# Altium footprint library 常用元件封装.PCBLIB: 167 footprints (part 10 of 11)
Each footprint in its own frame and in the unit in brackets; x right, y up, seen from the top. Pads: shape width x height; smd on the part's side, far side on the other; paste and mask are expansions set on the pad; w line width, h text height; cw(c..) or ccw(c..) is an arc to the next point about the centre after c.
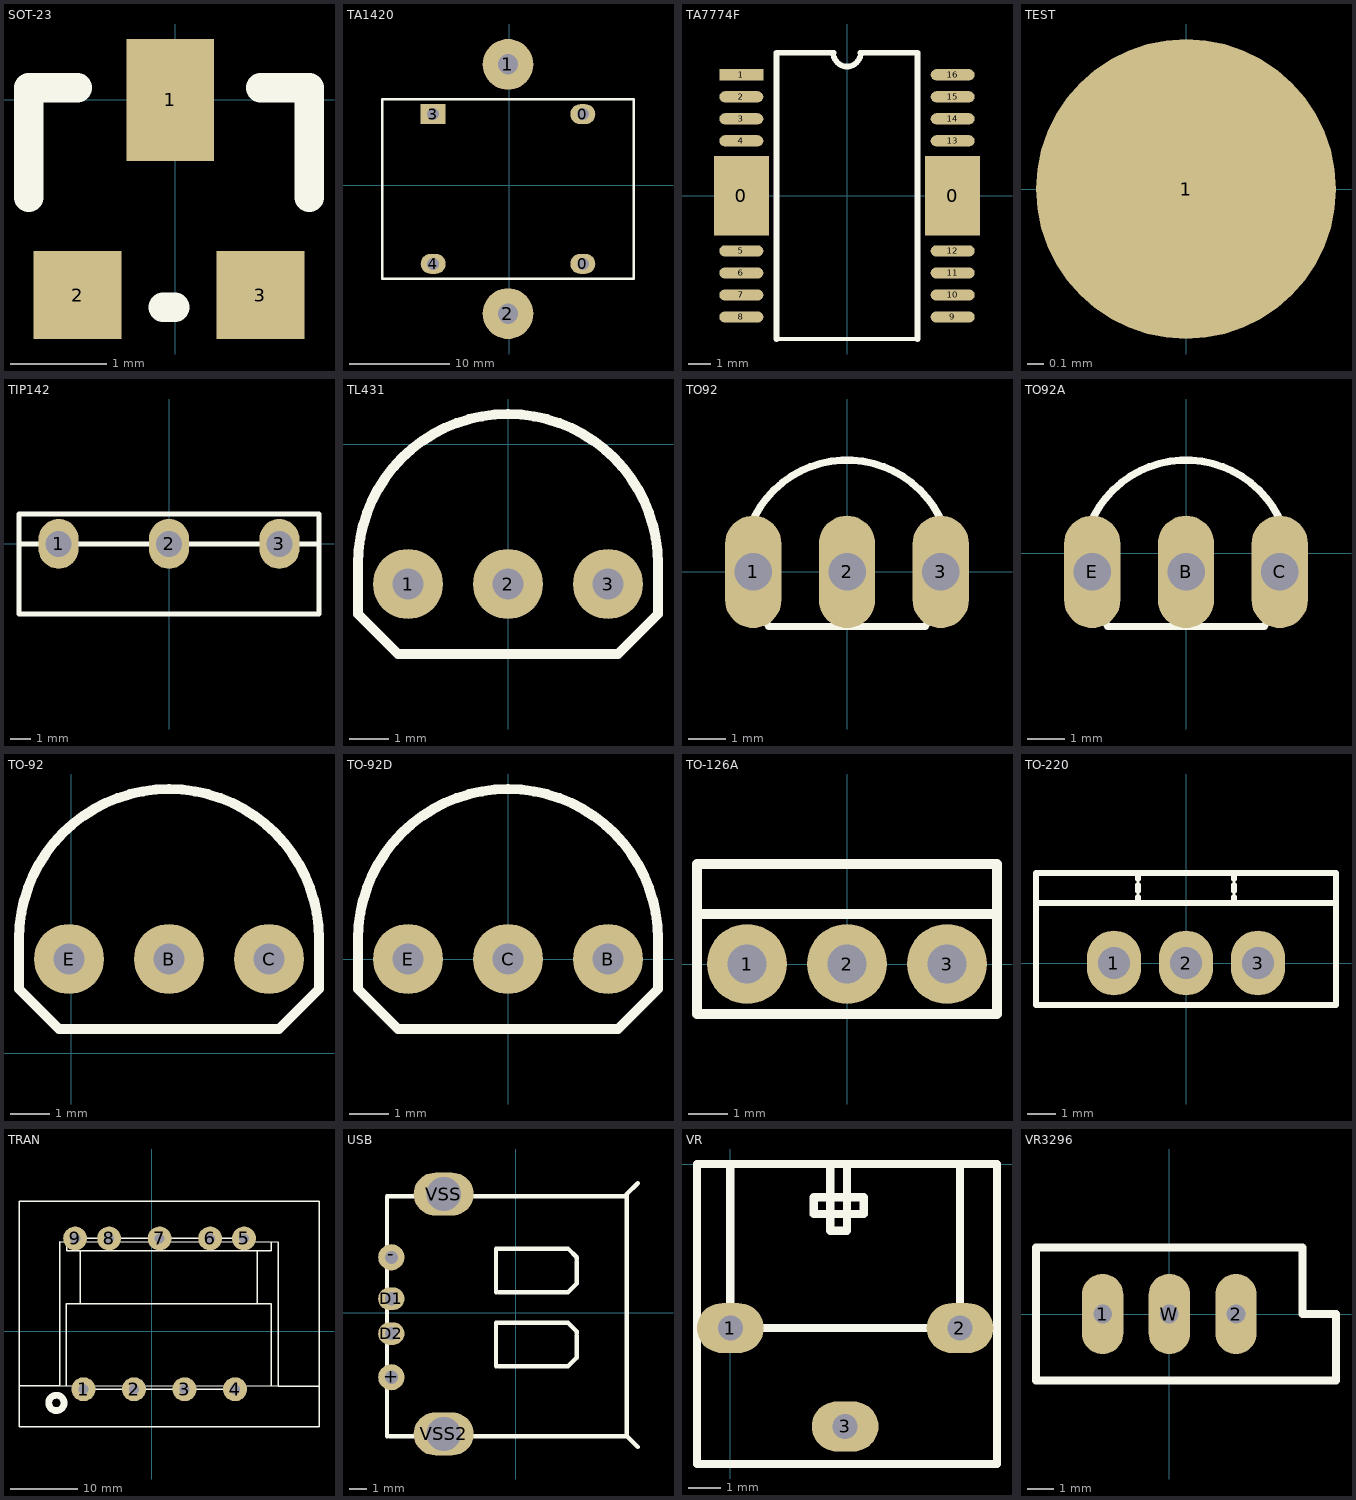
[diagram p9: the footprints below, top view; thin cyan lines are the x and y axes]

## SOT-23 [mil]
pads (3):
  rect 36x50 smd: 1(-2,0)
  rect 36x36 smd: 2(-40,-80) 3(35,-80)
TopOverlay:
  lines w12: -60,-40 -60,5 -40,5 ; -5,-85 0,-85 ; 35,5 55,5 55,-40

## TA1420 [mm]
pads (6):
  oval 2.5x2 hole 1.2: 0(7.38,-7.888) 0(7.38,7.112) 4(-7.62,-7.888)
  round 5.08 hole 2.032: 1(-0.12,12.112) 2(-0.12,-12.888)
  rect 2.5x2 hole 1.2: 3(-7.62,7.112)
TopOverlay:
  lines w0.254: -1.92,8.612 12.48,8.612 12.48,-9.388 -12.72,-9.388 -12.72,8.612 -0.22,8.612

## TA7774F [mm]
pads (18):
  rect 2.5x3.6 smd: 0(-4.8,0) 0(4.8,0)
  rect 2x0.508 smd: 1(-4.8,5.5)
  oval 2x0.508 smd: 2(-4.8,4.5) 3(-4.8,3.5) 4(-4.8,2.5) 5(-4.8,-2.5) 6(-4.8,-3.5) 7(-4.8,-4.5) 8(-4.8,-5.5) 9(4.8,-5.5) 10(4.8,-4.5) 11(4.8,-3.5) 12(4.8,-2.5) 13(4.8,2.5) 14(4.8,3.5) 15(4.8,4.5) 16(4.8,5.5)
TopOverlay:
  lines w0.2: -3.2,-6.5 3.2,-6.5
  lines w0.254: -3.2,-6.5 -3.2,6.5 -0.6,6.5 ; -0.625,6.5 ccw(c0,6.5) 0.625,6.5 ; 0.6,6.5 3.2,6.5 3.2,-6.5

## TEST [mil]
pads (1):
  round 70 smd: 1(0,0)

## TIP142 [mil]
pads (3):
  oval 79x98 hole 51: 1(-217,0) 2(0,0) 3(217,0)
TopOverlay:
  lines w10: -295,0 295,0 ; -295,-138 295,-138 295,59 -295,59 -295,-138

## TL431 [mil]
pads (3):
  round 70 hole 31.5: 1(-100,-140) 2(0,-140) 3(100,-140)
TopOverlay:
  lines w10: -150,-170 -150,-120 cw(c0,-120) 150,-120 150,-170 110,-210 -110,-210 -150,-170

## TO92 [mil]
pads (3):
  oval 60x120 hole 40: 1(-100,0) 2(0,0) 3(100,0)
TopOverlay:
  lines w7.87: -102.76,49.85 cw(c0,8.33) 102.76,49.85 ; -89.08,-49.71 -83.33,-58.33 83.33,-58.33 89.08,-49.71

## TO92A [mil]
pads (3):
  oval 60x120 hole 40: B(0,-20) C(100,-20) E(-100,-20)
TopOverlay:
  lines w7.87: -102.76,29.85 cw(c0,-11.67) 102.76,29.85 ; -89.08,-69.71 -83.33,-78.33 83.33,-78.33 89.08,-69.71

## TO-92 [mil]
pads (3):
  round 70 hole 31.5: B(98,94) C(198,94) E(-2,94)
TopOverlay:
  lines w10: -52,64 -52,114 cw(c98,114) 248,114 248,64 208,24 -12,24 -52,64

## TO-92D [mil]
pads (3):
  round 70 hole 31.5: B(100,0) C(0,0) E(-100,0)
TopOverlay:
  lines w10: -150,-30 -150,20 cw(c0,20) 150,20 150,-30 110,-70 -110,-70 -150,-30

## TO-126A [mil]
pads (3):
  round 80 hole 39: 1(-100,0) 2(0,0) 3(100,0)
TopOverlay:
  lines w10: 150,40 150,100 -150,100 -150,50 ; -150,50 150,50 150,-50 -150,-50 -150,50

## TO-220 [mil]
pads (3):
  oval 75x90 hole 45: 1(-100,0) 2(0,0) 3(100,0)
TopOverlay:
  lines w7.87: -66.67,83.33 -66.67,91.67 ; -66.67,100 -66.67,108.33 ; -66.67,116.67 -66.67,125 ; 66.67,83.33 66.67,91.67 ; 66.67,100 66.67,108.33 ; 66.67,116.67 66.67,125 ; -208.33,83.33 208.33,83.33 ; -208.33,83.33 -208.33,-58.33 208.33,-58.33 208.33,83.33 ; -208.33,83.33 -208.33,125 208.33,125 208.33,83.33

## TRAN [mil]
pads (9):
  round 140 hole 60: 1(-400,-340) 2(-104,-340) 3(192,-340) 4(488,-340) 5(541,544) 6(342,544) 7(46,544) 8(-250,544) 9(-449,544)
TopOverlay:
  circle w40: c-559.1,-420 r45.1
  lines w8: -778,-319 -540,-319 ; -500,-318 -500,160 -460,160 660,160 699,160 699,-321 ; -498,523 -498,471 698,471 699,472 699,521 ; -450,544 541,544 ; -420,160 -420,469 ; -402,-340 488,-340 ; 617,160 617,470 ; 980,-321 742,-321 ; -540,-319 -540,523 742,521 742,-321 ; -540,-319 742,-321 ; -778,-561 980,-561 980,763 -778,763 -778,-561

## USB [mm]
pads (6):
  round 1.524 hole 0.762: +(-7.255,-3.757) -(-7.255,3.228)
  oval 1.524x1.324 hole 0.762: D1(-7.255,0.815) D2(-7.255,-1.217)
  oval 3.5x2.5 hole 2: VSS(-4.207,6.911) VSS2(-4.207,-7.059)
TopOverlay:
  lines w0.254: -7.509,-7.186 -7.509,6.784 6.461,6.784 ; -7.382,-7.186 6.461,-7.186 ; -1.159,-3.122 -1.159,-0.582 3.032,-0.582 3.54,-1.09 3.54,-1.217 ; -1.159,1.196 -1.159,3.736 3.032,3.736 3.54,3.228 3.54,3.101 ; -1.032,-3.122 3.032,-3.122 3.54,-2.614 3.54,-1.344 ; -1.032,1.196 3.032,1.196 3.54,1.704 3.54,2.974 ; 7.096,-7.821 6.461,-7.186 ; 7.096,7.546 6.461,6.911 6.461,6.784 ; 6.461,-7.186 6.461,6.784

## VR [mil]
pads (3):
  oval 80x60 hole 30: 1(0,-196.85) 2(275.59,-196.85) 3(137.8,-314.96)
TopOverlay:
  lines w10: 120,0 120,-80 140,-80 140,0 ; 0,0 275.59,0 ; 0,0 0,-196.85 275.59,-196.85 275.59,0 ; 0,0 -40,0 -40,-360 320,-360 320,-300 320,0 275.59,0 ; 100,-60 160,-60 160,-40 100,-40 100,-60

## VR3296 [mil]
pads (3):
  oval 62x120 hole 28: 1(-100,0) 2(100,0) W(0,0)
TopOverlay:
  lines w12: -200,-100 -200,100 200,100 200,0 250,0 250,-100 -200,-100